# EAGLE library part USB-MICROB (library smd)
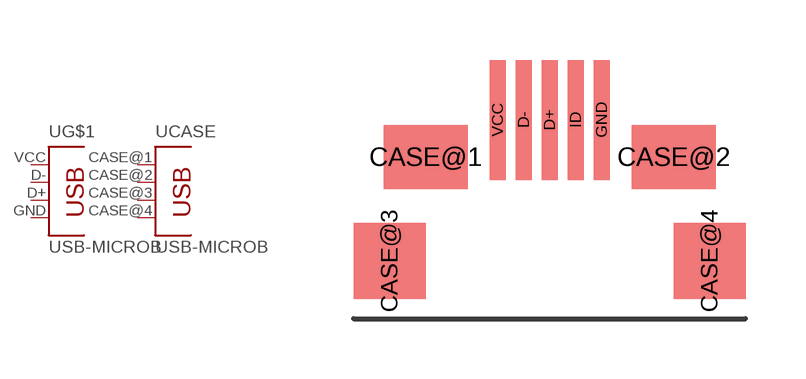
[diagram p2: symbol with the pads of ZX62-B-5PA; footprint ZX62-B-5PA]

Designator prefix -; gates G$1=J11 CASE=J11

## USB-MICROB  [ZX62-B-5PA]
CASE@1  CASE:1
CASE@2  CASE:2
CASE@3  CASE:3
CASE@4  CASE:4
D+  G$1:3
D-  G$1:2
GND  G$1:4
VCC  G$1:1

## Footprint ZX62-B-5PA (pad centres in mm)
smd 2.1 x 1.6: CASE@1 -3.1,2.6; CASE@2 3.1,2.6
smd 1.8 x 1.9: CASE@3 -4,0; CASE@4 4,0
smd 0.4 x 3: D+ 0,3.525; D- -0.65,3.525; GND 1.3,3.525; ID 0.65,3.525; VCC -1.3,3.525